# Altium footprint library Header_2x1_4A.PcbLib: 1 footprints
Each footprint in its own frame and in the unit in brackets; x right, y up, seen from the top. Pads: shape width x height; smd on the part's side, far side on the other; paste and mask are expansions set on the pad; w line width, h text height; cw(c..) or ccw(c..) is an arc to the next point about the centre after c.
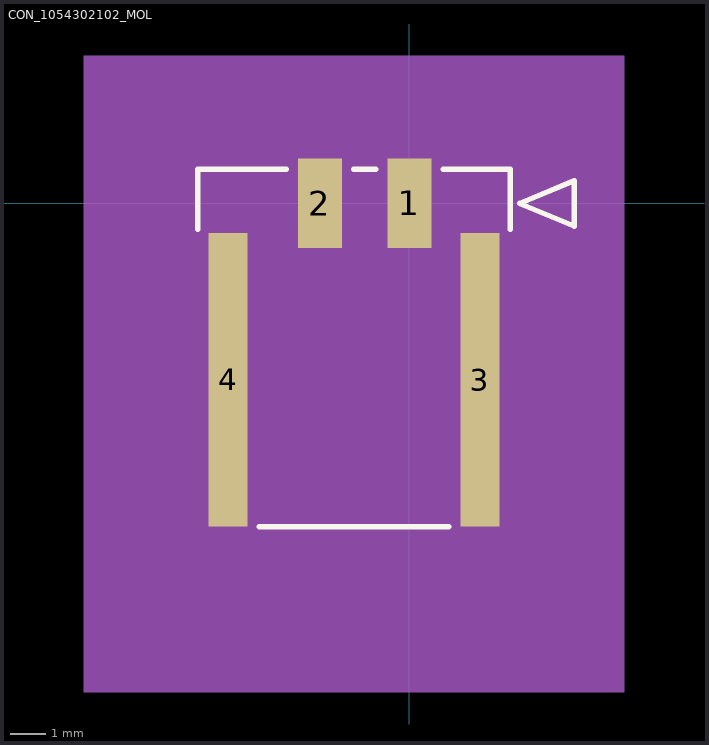
[diagram p0: the footprint, top view; thin cyan lines are the x and y axes]

## CON_1054302102_MOL [mm]
pads (4):
  rect 1.24x2.5 smd paste+0 mask+0.076: 1(0,0) 2(-2.5,0)
  rect 1.1x8.2 smd paste+0 mask+0.076: 3(1.97,-4.93) 4(-5.07,-4.93)
Top Overlay:
  lines w0.152: -5.92,-0.719 -5.92,0.95 -3.44,0.95 ; -4.2,-9.03 1.1,-9.03 ; -1.56,0.95 -0.94,0.95 ; 0.94,0.95 2.82,0.95 2.82,-0.719 ; 3.074,0 4.598,0.635 4.598,-0.635 3.074,0
Mechanical 5:
  region: -9.095,4.125 5.995,4.125 5.995,-13.655 -9.095,-13.655
Mechanical 13:
  lines w0.127: -5.92,-10.48 2.82,-10.48 2.82,0.95 -5.92,0.95 -5.92,-10.48 ; 3.074,0 4.598,0.635 4.598,-0.635 3.074,0
Mechanical 15:
  region: 4.09,2.22 -7.19,2.22 -7.19,-11.75 4.09,-11.75
  lines w0.127: -7.19,-11.75 -7.19,2.22 4.09,2.22 4.09,-11.75 -7.19,-11.75
3D body: height 0.25, standoff 0, extent 0,0 0.254,0.254
3D body "1054302102.stp": height 6.99, standoff 0, extent -5.894,-10.123 2.846,1.307